# EAGLE library part FT232RL_SSOP (library custom)
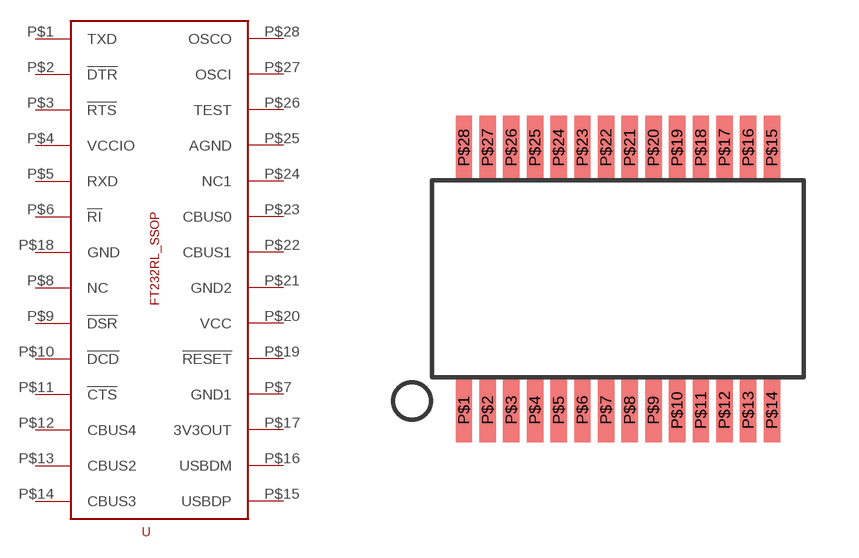
[diagram p30: symbol with the pads of SSOP28; footprint SSOP28]

Designator prefix -

## FT232RL_SSOP  [SSOP28]
P$1  TXD
P$2  !DTR
P$3  !RTS
P$4  VCCIO
P$5  RXD
P$6  !RI
P$7  GND1
P$8  NC  nc
P$9  !DSR
P$10  !DCD
P$11  !CTS
P$12  CBUS4
P$13  CBUS2
P$14  CBUS3
P$15  USBDP
P$16  USBDM
P$17  3V3OUT
P$18  GND
P$19  !RESET
P$20  VCC
P$21  GND2
P$22  CBUS1
P$23  CBUS0
P$24  NC1  nc
P$25  AGND
P$26  TEST
P$27  OSCI
P$28  OSCO

## Footprint SSOP28 (pad centres in mm)
smd 0.45 x 1.75: P$1 -4.225,-3.6; P$2 -3.575,-3.6; P$3 -2.925,-3.6; P$4 -2.275,-3.6; P$5 -1.625,-3.6; P$6 -0.975,-3.6; P$7 -0.325,-3.6; P$8 0.325,-3.6; P$9 0.975,-3.6; P$10 1.625,-3.6; P$11 2.275,-3.6; P$12 2.925,-3.6; P$13 3.575,-3.6; P$14 4.225,-3.6; P$15 4.225,3.6; P$16 3.575,3.6; P$17 2.925,3.6; P$18 2.275,3.6; P$19 1.625,3.6; P$20 0.975,3.6; P$21 0.325,3.6; P$22 -0.325,3.6; P$23 -0.975,3.6; P$24 -1.625,3.6; P$25 -2.275,3.6; P$26 -2.925,3.6; P$27 -3.575,3.6; P$28 -4.225,3.6